# Altium schematic symbol library OltestLib_chul.SchLib: 110 symbols (part 2 of 2)
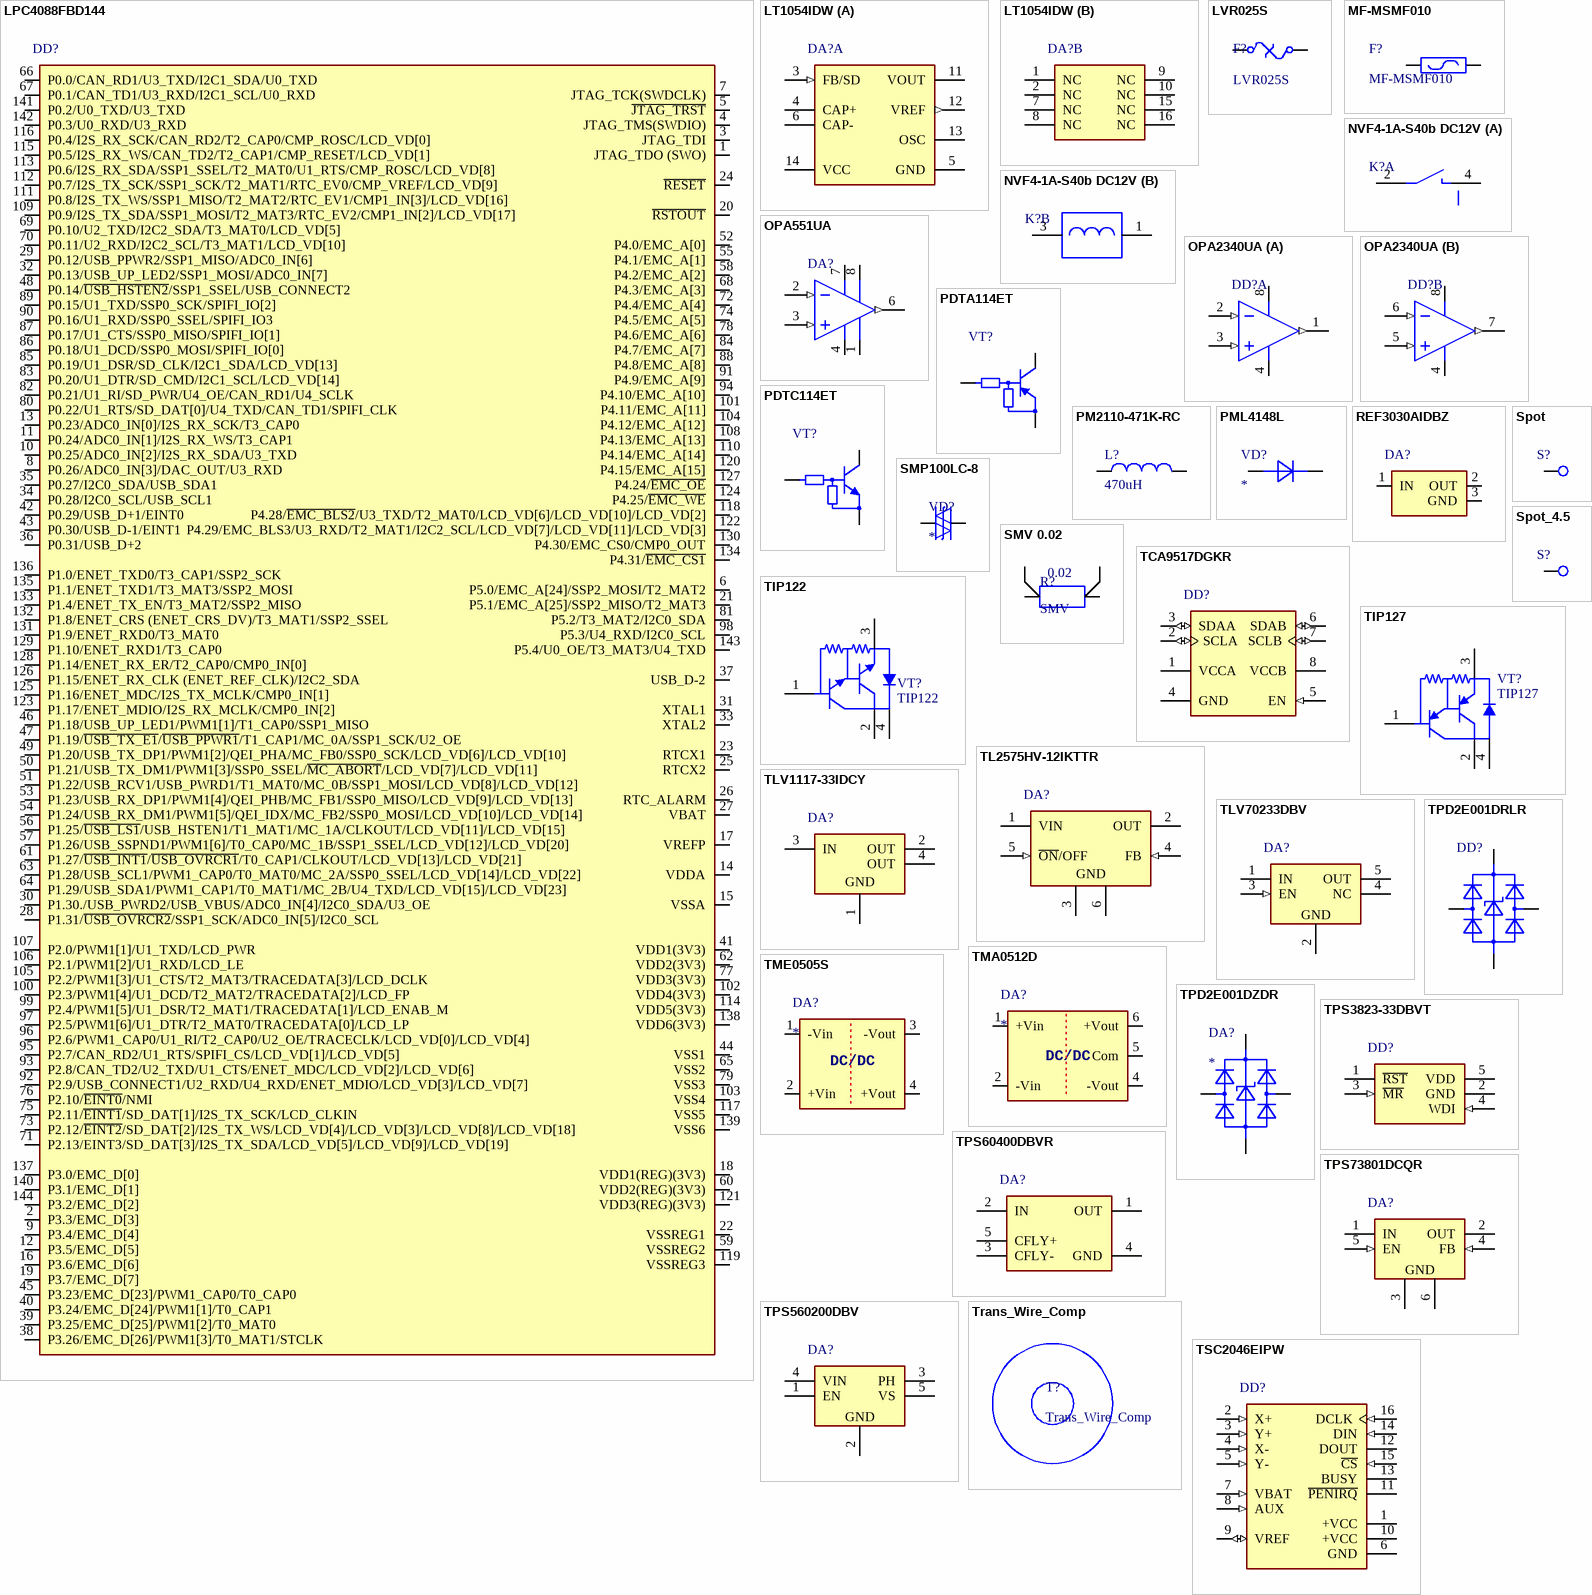
[diagram p5: symbols LPC4088FBD144 to TSC2046EIPW]

## SMV 0.02
designator R?, comment SMV  value 0.02
SMV 5W R020 1% 30ppm; PartNumber: SMV-R020-1.0; Manufacturer: ISABELLENHUETTE
footprint SMV
pins: 1, 2, 3, 4

## Spot
designator S?, comment SPOT  (value not drawn)
Manufacturer: -; PartNumber: Spot
footprint Spot (Spot 1mm)
pins: 1

## Spot_4.5
designator S?, comment SPOT 4.5  (value not drawn)
Spot_4.5; Manufacturer: -; PartNumber: Spot
footprint Spot_4.5 (Spot 4.5mm)
pins: 1

## TCA9517DGKR
designator DD?
Level-Shifting I 2C Bus Repeater; PartNumber: TCA9517DGKR; Manufacturer: Texas Instruments
footprint DGK8_M (TSOP, 8-Leads, Body 3x3mm, Pitch 0.65mm, IPC Low Density)
pins: 1 VCCA (power) "A-side supplyVoltage (0.9V to VCCB - 1V)", 2 SCLA (io) "Serial clock bus, A side.", 3 SDAA (io) "Serial data bus, A side.", 4 GND (power) "Supply ground", 5 EN (in) "Active-high repeater enable input", 6 SDAB (io) "Serial data bus, B side. Connect to VCCB through a pullup resistor.", 7 SCLB (io) "Serial clock bus, B side. Connect to VCCB through a pullup resistor.", 8 VCCB (power) "B-side and device supplyVoltage (2.7V to 5.5V)"

## TIP122
designator VT?
NPN Darlington Bipolar Transistor; Manufacturer: ST; PackageReference: TO-220; PartNumber: TIP122
footprint TO-220 (TO-220, 4-pin)
simulation model NPN3 (Spice Subcircuit)
signal-integrity model NPN
pins: 1, 2, 3, 4

## TIP127
designator VT?
PNP Darlington Bipolar Transistor; Manufacturer: ST; PartNumber: TIP127; PackageReference: TO-220
footprint TO-220 (TO-220, 4-pin)
simulation model PNP3 (Spice Subcircuit)
signal-integrity model PNP
pins: 1, 2, 3, 4

## TL2575HV-12IKTTR
designator DA?
Buck Step Down Regulator with 4.75 to 60 V Input and 12 V Output, -40 to 125 degC, 5-Pin DDPAK/TO-263 (KTT), Green (RoHS & no Sb/Br); Manufacturer: Texas Instruments; PartNumber: TL2575HV-12IKTTR; Preset Vout(V): 12; Rating: Catalog; Vin(Max)(V): 60; Vin(Min)(V): 4.75; PackageVersion: revF, Jul-2011; PackageReference: KTT5; PackageDescription: 6-Pin Plastic Fange-Mount Package 1.7 mm Pitch, 15.2 mm Lead Span; Topology: Buck; Vout(Max)(V): 12; Vout(Min)(V): 12; Mounting Technology: Surface Mount
footprint KTT5_M (D2-PAK, 6-Leads, Body 8.9x10.2mm, Pitch 1.7mm, Lead Span 15.2mm, IPC Low Density)
pins: 1 VIN (power), 2 OUT (power), 3 GND (power), 4 FB (in), 5 ~{ON}/OFF (in), 6 GND (power)

## TLV1117-33IDCY
designator DA?
Low-Dropout Voltage Regulator, 3.3V 0.8A Output, 4-pin SOT-223 (DCY); Manufacturer: Texas Instruments; PartNumber: TLV1117LV33DCYR
footprint TI-DCY4_M (SOT223, 4-Leads, Body 6.5x3.5mm, Pitch 2.3mm, IPC Low Density)
pins: 1 GND (power) "Ground pin", 2 OUT (power) "Regulated output voltage pin.", 3 IN (power) "Input pin.", 4 OUT (power) "Regulated output voltage pin."

## TLV70233DBV
designator DA?
Single Output LDO, 300 mA, Fixed 3.3 V Output, 2 to 5.5 V Input; Manufacturer: Texas Instruments; PartNumber: TLV70233DBV
footprint TI-DBV5_M (SOT23, 5-Leads, Body 2.9x1.6mm, Pitch 0.95mm, IPC Low Density)
pins: 1 IN (power) "Input supply voltage", 2 GND (power) "Ground", 3 EN (in) "Enable input", 4 NC "No connected", 5 OUT (power) "Regulated output voltage"

## TMA0512D
designator DA?
DC/DC
footprint SIP6 12456
pins: 1 +Vin, 2 -Vin, 4 -Vout, 5 Com, 6 +Vout

## TME0505S
designator DA?
DC/DC
footprint SIP4
pins: 1 -Vin, 2 +Vin, 3 -Vout, 4 +Vout

## TPD2E001DRLR
designator DD?
Low-Capacitance + / - 15 kV ESD-Protection Array for High-Speed Data Interfaces, 2 Channels, -40 to +85 degC, 5-pin SOT (DRL), Green (RoHS & no Sb/Br); Manufacturer: Texas Instruments; PartNumber: TPD2E001DRLR
footprint DRL5_M (SOTFL, 5-Flat Leads, Body 1.2x1.6x0.6mm, Pitch 0.5mm, IPC Low Density)
pins: 1 VCC (power), 3 IO1, 4 GND (power), 5 IO2

## TPD2E001DZDR
designator DA?
2-Channel ESD-Protection for High-Speed Data Interfaces; PartNumber: TPD2E001DZDR; Manufacturer: Texas Instruments
footprint DZD
pins: 1 (power), 2, 3, 4 (power)

## TPS3823-33DBVT
designator DD?
Supervisor with Watchdog; Manufacturer: Texas Instruments; PartNumber: TPS3823-33DBVT
footprint TI-DBV5_N (SOT23, 5-Leads, Body 2.9x1.6mm, Pitch 0.95mm, IPC Medium Density)
pins: 1 ~{RST} (oc) "Open-drain reset output", 2 GND (power) "Ground", 3 ~{MR} (in) "Programmable watchdog delay input", 4 WDI (in) "Watchdog timer input. This input must be driven at all times and not left floating.", 5 VDD (power) "Selectable watchdog window ratio input. This input must be tied to VDD or GND and not left floating."

## TPS60400DBVR
designator DA?
-1.8 to -5.25 V, Inverting Charge Pump, 60 mA, 1.8 to 5.25 V Input with 2-Cell Alkaline / Nixx Input, -40 to 85 degC, 5-pin SOT23 (DBV5), Green (RoHS & no Sb/Br); Manufacturer: Texas Instruments; PartNumber: TPS60400DBVR; 2-Cell Alkaline/Nixx Input: TRUE; Efficiency(Typ)(%): 99; Iout(Max)(A): 0.06; Iq(Typ)(mA): 0.125; Switching Frequency(Max)(kHz): 450; Topology: Inverting Buck/Boost; Vin(Max)(V): 5.25; Vin(Min)(V): 1.8; Vout(Min)(V): -1.6; DatasheetVersion: SLVS324A; PackageVersion: 4073253-4/K; PackageReference: DBV5; PackageDescription: 5-Pin Plastic Small Outline, Body 1.60 Г— 2.90 mm, Pitch 0.95 mm; Eco-Plan: Green (RoHS & no Sb/Br); Vout(Max)(V): -5.25; Mounting Technology: Surface Mount; Code_JEDEC: MO-178; ComponentLink1Description: Manufacturer URL; ComponentLink1URL: http://www.ti.com/; ComponentLink2Description: Datasheet; ComponentLink2URL: http://www.ti.com/general/docs/lit/getliterature.tsp?genericPartNumber=TPS60400&fileType=pdf; ComponentLink3Description: Package Specification; ComponentLink3URL: http://www.ti.com/litv/pdf/mpds018i
footprint TI-DBV5_N (SOT23, 5-Leads, Body 2.9x1.6mm, Pitch 0.95mm, IPC Medium Density)
pins: 1 OUT (power) "Power output with VO = -VI Bypass OUT to GND with the output filter capacitor CO.", 2 IN (power) "Supply input. Connect to an input supply in the 1.6-V to 5.5-V range. Bypass IN to GND with a capacitor that has the same value as the flying capacitor.", 3 CFLY- "Negative terminal of the flying capacitor C(fly)", 4 GND (power) "Ground", 5 CFLY+ "Positive terminal of the flying capacitor C(fly)"

## TPS73801DCQR
designator DA?
1A Low Noise, Low-Dropout Linear Regulator; Manufacturer: Texas Instruments; PartNumber: TPS73801DCQR
footprint TI-DCQ6_M (SOT223, 6-Leads, Body 6.5x3.5mm, Pitch 1.27mm, IPC Low Density)
pins: 1 IN (power) "Input. Power is supplied to the device through the IN pin. A bypass capacitor is required on this pin if the device is more than six inches away from the main input filter capacitor. In general, the output impedance of a (See Datasheet)", 2 OUT (power) "Output. The output supplies power to the load. A minimum output capacitor (ceramic) of 10 uF is required to prevent oscillations. Larger output capacitors are required for applications with large transient loads to limit (See Datasheet)", 3 GND (power) "Ground", 4 FB (in) "Feedback. This is the input to the error amplifier. This pin is internally clamped to +/-7 V. It has a bias current of 3 uA that flows into the pin. The FB pin voltage is 1.21 V referenced to ground, and the output voltage (See Datasheet)", 5 EN (in) "Enable. The EN pin is used to put the TPS73801 regulators into a low-power shutdown state. The output is off when the EN pin is pulled low. The EN pin can be driven either by 5-V logic or open-collector gate, normally (See Datasheet)", 6 GND (power) "Ground"

## TPS560200DBV
designator DA?
500-mA Synchronous Step-Down Converter, 4.5-V to 17-V Input; Manufacturer: Texas Instruments; PartNumber: TPS560200DBV
footprint TI-DBV5_M (SOT23, 5-Leads, Body 2.9x1.6mm, Pitch 0.95mm, IPC Low Density)
pins: 1 EN "Enable input", 2 GND (power) "Ground", 3 PH (power) "Regulated output voltage", 4 VIN (power) "Input supply voltage", 5 VS "No connected"

## Trans_Wire_Comp
designator T?
Wire Compensation Transformer; PartNumber: AMAK; Manufacturer: Oltest
footprint Trans_M402

## TSC2046EIPW
designator DD?
Touch Screen Controller with Serial Interface; Manufacturer: Texas Instruments; PartNumber: TSC2046EIPW
footprint PW0016A_M (SOP, 16-Leads, Body 5.1x4.5mm, Pitch 0.65mm, IPC Low Density)
pins: 1 +VCC (power) "Power Supply Input. The +VCC range for the AD7873 is from 2.2 V to 5.25 V. Both +VCC pins should be connected directly together.", 2 X+ (in) "X+ Position Input. ADC Input Channel 1.", 3 Y+ (in) "Y+ Position Input. ADC Input Channel 2.", 4 X- (in) "X- Position Input.", 5 Y- (in) "Y- Position Input. ADC Input Channel 3.", 6 GND (power) "Analog Ground. Ground reference point for all circuitry on the AD7873. All analog input signals and any external reference signals should be referred to this GND voltage.", 7 VBAT (in) "Battery Monitor Input. ADC Input Channel 4.", 8 AUX (in) "Auxiliary Input. ADC Input Channel 5.", 9 VREF (io) "Reference Output for the AD7873. Alternatively, an external reference can be applied to this input. The voltage range for the external reference is 1.0 V to +VCC. For specified performance, it is 2.5 V on the AD7873. The (See Datasheet)", 10 +VCC (power) "Power Supply Input. The +VCC range for the AD7873 is from 2.2 V to 5.25 V. Both +VCC pins should be connected directly together.", 11 ~{PENIRQ} (oc) "Pen Interrupt. CMOS logic open-drain output (requires 10 k ohm to 100 k ohm pull-up resistor externally).", 12 DOUT (hiz) "Data Out. Logic output. The conversion result from the AD7873 is provided on this output as a serial data stream. The bits are clocked out on the falling edge of the DCLK input. This output is high impedance when C\S\ is (See Datasheet)", 13 BUSY (hiz) "BUSY Output. Logic output. This output is high impedance when C\S\ is high.", 14 DIN (in) "Data In. Logic Input. Data to be written to the AD7873 control register is provided on this input and is clocked into the register on the rising edge of DCLK (see the Control Register section).", 15 ~{CS} (in) "Chip Select Input. Active low logic input. This input provides the dual function of initiating conversions on the AD7873 and enabling the serial input/output register.", 16 DCLK (in) "External Clock Input. Logic input. DCLK provides the serial clock for accessing data from the part. This clock input is also used as the clock source for the AD7873 conversion process."

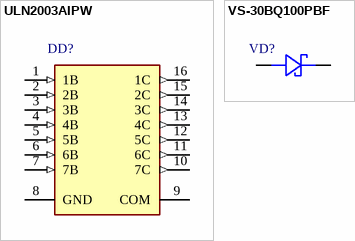
[diagram p4: symbols ULN2003AIPW to VS-30BQ100PBF]

## ULN2003AIPW
designator DD?
Darlington Transistor Arrays, 50V, 500mA; Manufacturer: Texas Instruments; PartNumber: ULN2003AIPW
footprint PW0016A_M (SOP, 16-Leads, Body 5.1x4.5mm, Pitch 0.65mm, IPC Low Density)
pins: 1 1B (in) "X+ Position Input. ADC Input Channel 1.", 2 2B (in) "X+ Position Input. ADC Input Channel 1.", 3 3B (in) "X+ Position Input. ADC Input Channel 1.", 4 4B (in) "X+ Position Input. ADC Input Channel 1.", 5 5B (in) "X+ Position Input. ADC Input Channel 1.", 6 6B (in) "X+ Position Input. ADC Input Channel 1.", 7 7B (in) "X+ Position Input. ADC Input Channel 1.", 8 GND (power) "Analog Ground. Ground reference point for all circuitry on the AD7873. All analog input signals and any external reference signals should be referred to this GND voltage.", 9 COM (power) "Analog Ground. Ground reference point for all circuitry on the AD7873. All analog input signals and any external reference signals should be referred to this GND voltage.", 10 7C (out) "X+ Position Input. ADC Input Channel 1.", 11 6C (out) "X+ Position Input. ADC Input Channel 1.", 12 5C (out) "X+ Position Input. ADC Input Channel 1.", 13 4C (out) "X+ Position Input. ADC Input Channel 1.", 14 3C (out) "X+ Position Input. ADC Input Channel 1.", 15 2C (out) "X+ Position Input. ADC Input Channel 1.", 16 1C (out) "X+ Position Input. ADC Input Channel 1."

## VS-30BQ100PBF
designator VD?  (value not drawn)
3A/100V Schottky Diode (SMC); Manufacturer: VISHAY; PartNumber: VS-30BQ100PBF
footprint SMC_VD_L8.1_W6.2 (Schottky Diode, 2-Leads, Body 8,13x6,52mm, IPC Low Density)
pins: 1 ANODE, 2 CATHODE